# EAGLE library part CD40106 (library wb-logic)
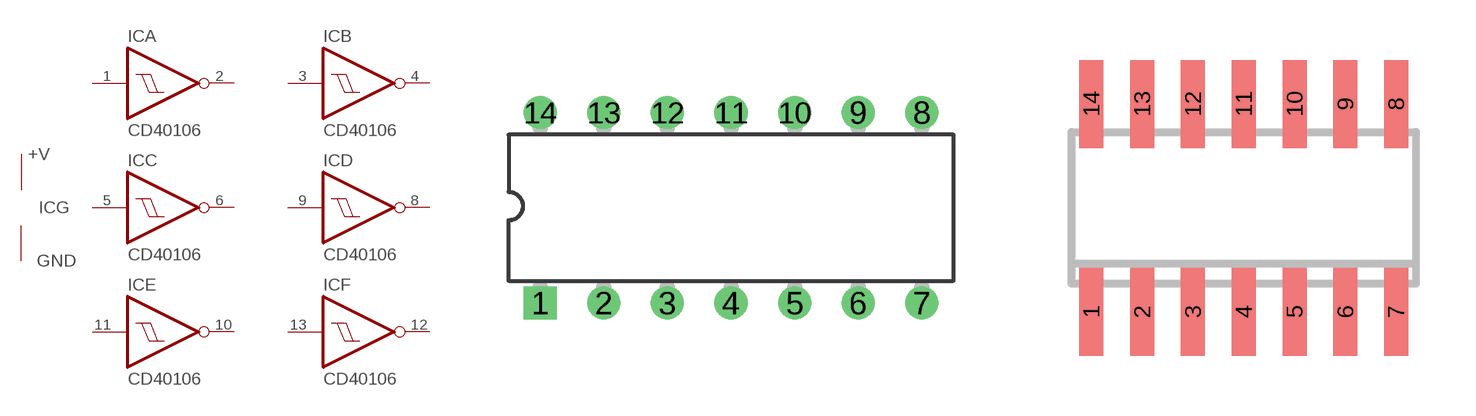
[diagram p0: symbol with the pads of DIL14; footprints DIL14, SO14]

Designator prefix IC; gates A=SCHMITT-INV B=SCHMITT-INV C=SCHMITT-INV D=SCHMITT-INV E=SCHMITT-INV F=SCHMITT-INV G=PWR

## CD40106D  [DIL14]
1  A:A  in
2  A:Y  out
3  B:A  in
4  B:Y  out
5  C:A  in
6  C:Y  out
7  G:GND  pas
8  D:Y  out
9  D:A  in
10  E:Y  out
11  E:A  in
12  F:Y  out
13  F:A  in
14  G:V+  pwr

## CD40106S  [SO14]
Pads as for DIL14

## Footprint DIL14 (pad centres in mm)
drill 0.813 square: 1 -7.62,-3.81
drill 0.813: 2 -5.08,-3.81; 3 -2.54,-3.81; 4 0,-3.81; 5 2.54,-3.81; 6 5.08,-3.81; 7 7.62,-3.81; 8 7.62,3.81; 9 5.08,3.81; 10 2.54,3.81; 11 0,3.81; 12 -2.54,3.81; 13 -5.08,3.81; 14 -7.62,3.81

## Footprint SO14 (pad centres in mm)
smd 0.6 x 2.2: 1 -3.81,-2.6; 2 -2.54,-2.6; 3 -1.27,-2.6; 4 0,-2.6; 5 1.27,-2.6; 6 2.54,-2.6; 7 3.81,-2.6; 8 3.81,2.6; 9 2.54,2.6; 10 1.27,2.6; 11 0,2.6; 12 -1.27,2.6; 13 -2.54,2.6; 14 -3.81,2.6